# EAGLE library part MCP79F2X (library Oles komponentbibliotek)
SPI Real-Time Clock Calendar with Battery Switchover
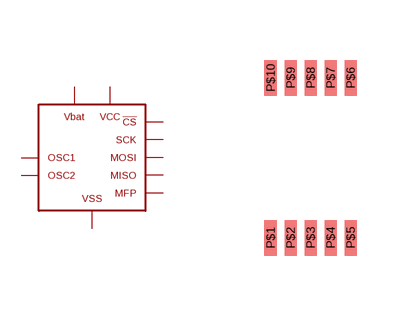
[diagram p53: symbol with the pads of MSOP10; footprint MSOP10]

Designator prefix -

## MCP79F2X  [MSOP10]
P$1  OSC1  pas
P$2  OSC2  pas
P$3  VBAT  pwr
P$4  !CS  in
P$5  VSS  pwr
P$6  MOSI  in
P$7  MISO  out
P$8  SCK  in
P$9  MFP  out
P$10  VCC  pwr

## Footprint MSOP10 (pad centres in mm)
smd 0.305 x 0.889: P$1 -1,-2.1; P$2 -0.5,-2.1; P$3 0,-2.1; P$4 0.5,-2.1; P$5 1,-2.1; P$6 1,1.9; P$7 0.5,1.9; P$8 0,1.9; P$9 -0.5,1.9; P$10 -1,1.9